# Altium schematic symbol library SJ-3503-SMT.SchLib: 1 symbol
Pins are listed as number, name and electrical type; pins without a type are passive.

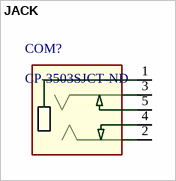
[diagram p0: symbol JACK]

## JACK
designator COM?, comment CP-3503SJCT-ND
PDF: http://www.cui.com/product/resource/digikeypdf/sj-3503-smt.pdf; BUY_LINK: http://www.digikey.com/product-detail/en/SJ-3503-SMT-TR/CP-3503SJCT-ND/2638985; PRICE: 1.86000; ID: CP-3503SJCT-ND
footprint SJ-3503-SMT
pins: 1, 2, 3, 4, 5